# EAGLE library part NRF52832DK_SHIELD (library headers)
Shield for the PCA10040 nRF52832 Development Kit
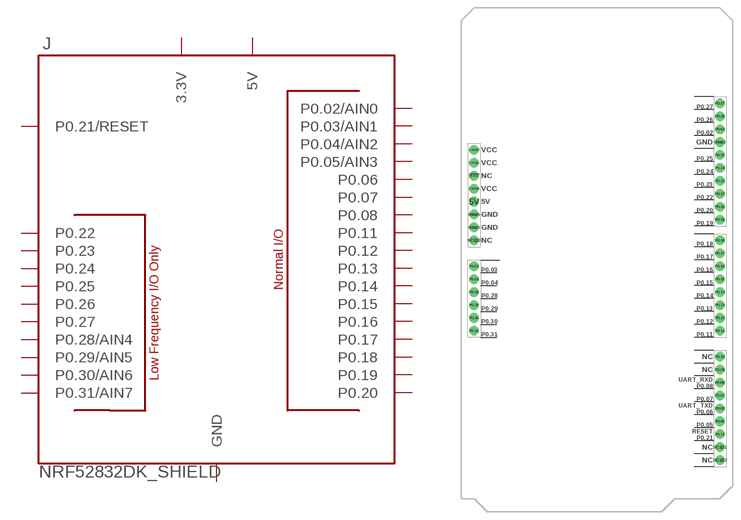
[diagram p21: symbol with the pads of NRF52832DK_SHIELD; footprint NRF52832DK_SHIELD]

Designator prefix J

## NRF52832DK_SHIELD  [NRF52832DK_SHIELD]
3.3V@0  3.3V
3.3V@1  3.3V
3.3V@2  3.3V
5V  5V
GND@0  GND
GND@1  GND
GND@2  GND
P0.02  P0.02/AIN0
P0.03  P0.03/AIN1
P0.04  P0.04/AIN2
P0.05  P0.05/AIN3
P0.06  P0.06
P0.07  P0.07
P0.08  P0.08
P0.11  P0.11
P0.12  P0.12
P0.13  P0.13
P0.14  P0.14
P0.15  P0.15
P0.16  P0.16
P0.17  P0.17
P0.18  P0.18
P0.19  P0.19
P0.20  P0.20
P0.21  P0.21/RESET
P0.22  P0.22
P0.23  P0.23
P0.24  P0.24
P0.25  P0.25
P0.26  P0.26
P0.27  P0.27
P0.28  P0.28/AIN4
P0.29  P0.29/AIN5
P0.30  P0.30/AIN6
P0.31  P0.31/AIN7

## Footprint NRF52832DK_SHIELD (pad centres in mm)
drill 1.016 pad 1.88: 3.3V@0 0,-7.62; 3.3V@1 0,-2.54; 3.3V@2 0,0; 5V 0,-10.16; !RESET 0,-5.08; GND@0 0,-12.7; GND@1 0,-15.24; GND@2 48.26,1.524; NC@0 0,-17.78; NC@1 48.26,-58.42; NC@2 48.26,-60.96; P0.02 48.26,4.064; P0.03 0,-22.86; P0.04 0,-25.4; P0.05 48.26,-53.34; P0.06 48.26,-50.8; P0.07 48.26,-48.26; P0.08 48.26,-45.72; P0.09 48.26,-43.18; P0.10 48.26,-40.64; P0.11 48.26,-35.56; P0.12 48.26,-33.02; P0.13 48.26,-30.48; P0.14 48.26,-27.94; P0.15 48.26,-25.4; P0.16 48.26,-22.86; P0.17 48.26,-20.32; P0.18 48.26,-17.78; P0.19 48.26,-13.716; P0.20 48.26,-11.176; P0.21 48.26,-55.88; P0.22 48.26,-8.636; P0.23 48.26,-6.096; P0.24 48.26,-3.556; P0.25 48.26,-1.016; P0.26 48.26,6.604; P0.27 48.26,9.144; P0.28 0,-27.94; P0.29 0,-30.48; P0.30 0,-33.02; P0.31 0,-35.56